# Altium footprint library Relays.PcbLib: 58 footprints (part 3 of 4)
Each footprint in its own frame and in the unit in brackets; x right, y up, seen from the top. Pads: shape width x height; smd on the part's side, far side on the other; paste and mask are expansions set on the pad; w line width, h text height; cw(c..) or ccw(c..) is an arc to the next point about the centre after c.
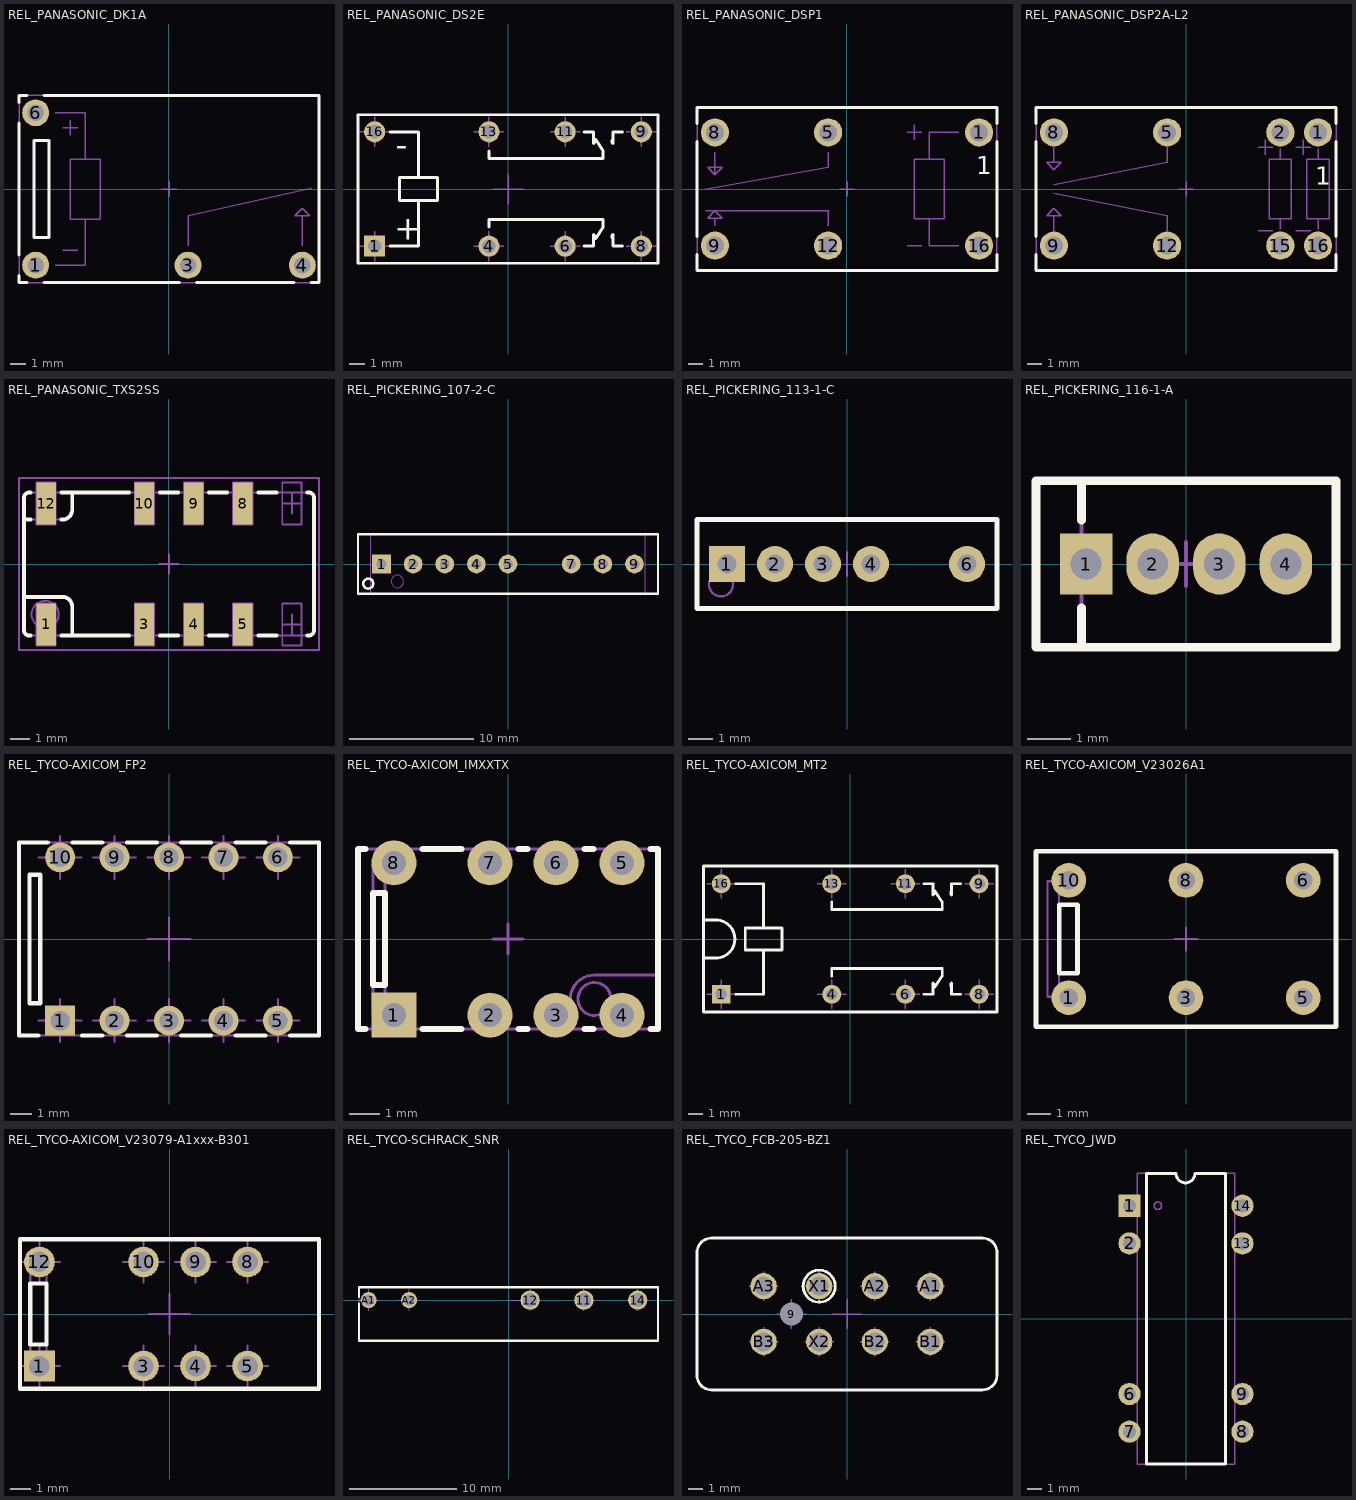
[diagram p2: the footprints below, top view; thin cyan lines are the x and y axes]

## REL_PANASONIC_DK1A [mm] "4 Leads Single Side Stable Relay,PANASONIC DK Serie, Body 20mm x 12.5mm"
height 10
pads (4):
  round 1.8 hole 1.1: 1(-8.89,-5.08) 3(1.27,-5.08) 4(8.89,-5.08) 6(-8.89,5.08)
Top Overlay:
  lines w0.2: -10,-5.757 -10,-6.25 -9.457,-6.25 ; -10,-4.403 -10,4.403 ; -10,5.757 -10,6.25 -9.457,6.25 ; -8.323,-6.25 0.703,-6.25 ; -8.323,6.25 10,6.25 10,-6.25 9.457,-6.25 ; 1.837,-6.25 8.323,-6.25 ; -9,-3.25 -8,-3.25 -8,3.25 -9,3.25 -9,-3.25
Mechanical 8:
  lines w0.1: -9.39,-5.08 -8.89,-5.08 ; -9.39,5.08 -8.89,5.08 ; -8.89,-5.58 -8.89,-5.08 ; -8.89,-4.58 -8.89,-5.08 ; -8.89,4.58 -8.89,5.08 ; -8.89,5.58 -8.89,5.08 ; -8.39,-5.08 -8.89,-5.08 ; -8.39,5.08 -8.89,5.08 ; -0.5,0 0,0 ; 0,-0.5 0,0 ; 0,0.5 0,0 ; 0.5,0 0,0 ; 0.77,-5.08 1.27,-5.08 ; 1.27,-5.58 1.27,-5.08 ; 1.27,-4.58 1.27,-5.08 ; 1.77,-5.08 1.27,-5.08 ; 8.39,-5.08 8.89,-5.08 ; 8.89,-5.58 8.89,-5.08 ; 8.89,-4.58 8.89,-5.08 ; 9.39,-5.08 8.89,-5.08
Mechanical 14:
  lines w0.1: -8.89,-6.25 -2.54,-6.25 ; -7.59,-5.08 -5.59,-5.08 -5.59,-2 ; -7.59,5.08 -5.59,5.08 -5.59,2 ; -7.09,-4.08 -6.09,-4.08 ; -7.09,4.08 -6.09,4.08 ; -6.59,3.58 -6.59,4.58 ; 1.27,-3.78 1.27,-1.78 9.473,0.066 ; 8.89,-3.78 8.89,-1.78 ; -10,-6.25 -10,6.25 10,6.25 10,-6.25 -10,-6.25 ; -9,-3.25 -8,-3.25 -8,3.25 -9,3.25 -9,-3.25 ; -6.59,-2 -4.59,-2 -4.59,2 -6.59,2 -6.59,-2 ; 8.39,-1.78 9.39,-1.78 8.89,-1.28 8.39,-1.78
3D body: height 10, standoff -3.5, extent -10,-6.25 10,6.25

## REL_PANASONIC_DS2E [mm] "8 Leads Single Side Stable Relay,PANASONIC DS Serie, Body 20mm x 9.9mm"
height 9.9
pads (8):
  rect 1.4x1.4 hole 0.9: 1(-8.89,-3.81)
  round 1.4 hole 0.9: 4(-1.27,-3.81) 6(3.81,-3.81) 8(8.89,-3.81) 9(8.89,3.81) 11(3.81,3.81) 13(-1.27,3.81) 16(-8.89,3.81)
Top Overlay:
  lines w0.2: -7.874,-3.81 -5.969,-3.81 -5.969,-0.762 ; -7.874,3.81 -5.969,3.81 -5.969,0.762 ; -1.27,-2.54 -1.27,-2.032 6.35,-2.032 6.35,-2.54 5.842,-3.302 ; -1.27,2.54 -1.27,2.032 6.35,2.032 6.35,2.54 5.842,3.302 ; 5.08,-3.81 5.715,-3.81 5.715,-3.048 cw(c5.588,-3.175) 5.715,-3.302 ; 5.08,3.81 5.715,3.81 5.715,3.048 ccw(c5.588,3.175) 5.715,3.302 ; 6.985,-3.302 cw(c7.112,-3.175) 6.985,-3.048 6.985,-3.81 7.62,-3.81 ; 6.985,3.302 ccw(c7.112,3.175) 6.985,3.048 6.985,3.81 7.62,3.81 ; -10,-4.95 -10,4.95 10,4.95 10,-4.95 -10,-4.95 ; -7.239,-0.762 -7.239,0.762 -4.699,0.762 -4.699,-0.762 -7.239,-0.762
  text "-" at -7.5,2.2 h1.6
  text "+" at -7.6,-3.4 h1.6
Mechanical 8:
  lines w0.1: -9.89,-3.81 -8.89,-3.81 ; -9.89,3.81 -8.89,3.81 ; -8.89,-4.81 -8.89,-3.81 ; -8.89,-2.81 -8.89,-3.81 ; -8.89,2.81 -8.89,3.81 ; -8.89,4.81 -8.89,3.81 ; -7.89,-3.81 -8.89,-3.81 ; -7.89,3.81 -8.89,3.81 ; -2.27,-3.81 -1.27,-3.81 ; -2.27,3.81 -1.27,3.81 ; -1.27,-4.81 -1.27,-3.81 ; -1.27,-2.81 -1.27,-3.81 ; -1.27,2.81 -1.27,3.81 ; -1.27,4.81 -1.27,3.81 ; -1,0 0,0 ; -0.27,-3.81 -1.27,-3.81 ; -0.27,3.81 -1.27,3.81 ; 0,-1 0,0 ; 0,1 0,0 ; 1,0 0,0 ; 2.81,-3.81 3.81,-3.81 ; 2.81,3.81 3.81,3.81 ; 3.81,-4.81 3.81,-3.81 ; 3.81,-2.81 3.81,-3.81 ; 3.81,2.81 3.81,3.81 ; 3.81,4.81 3.81,3.81 ; 4.81,-3.81 3.81,-3.81 ; 4.81,3.81 3.81,3.81 ; 7.89,-3.81 8.89,-3.81 ; 7.89,3.81 8.89,3.81 ; 8.89,-4.81 8.89,-3.81 ; 8.89,-2.81 8.89,-3.81 ; 8.89,2.81 8.89,3.81 ; 8.89,4.81 8.89,3.81 ; 9.89,-3.81 8.89,-3.81 ; 9.89,3.81 8.89,3.81
Mechanical 14:
  lines w0.1: -7.874,-3.81 -5.969,-3.81 -5.969,-0.762 ; -7.874,3.81 -5.969,3.81 -5.969,0.762 ; -1.27,-2.54 -1.27,-2.032 6.35,-2.032 6.35,-2.54 5.842,-3.302 ; -1.27,2.54 -1.27,2.032 6.35,2.032 6.35,2.54 5.842,3.302 ; 5.08,-3.81 5.715,-3.81 5.715,-3.048 cw(c5.588,-3.175) 5.715,-3.302 ; 5.08,3.81 5.715,3.81 5.715,3.048 ccw(c5.588,3.175) 5.715,3.302 ; 6.985,-3.302 cw(c7.112,-3.175) 6.985,-3.048 6.985,-3.81 7.62,-3.81 ; 6.985,3.302 ccw(c7.112,3.175) 6.985,3.048 6.985,3.81 7.62,3.81 ; -10,-4.95 -10,4.95 10,4.95 10,-4.95 -10,-4.95 ; -9.19,-3.96 -8.59,-3.96 -8.59,-3.66 -9.19,-3.66 -9.19,-3.96 ; -9.19,3.66 -8.59,3.66 -8.59,3.96 -9.19,3.96 -9.19,3.66 ; -7.239,-0.762 -7.239,0.762 -4.699,0.762 -4.699,-0.762 -7.239,-0.762 ; -1.57,-3.96 -0.97,-3.96 -0.97,-3.66 -1.57,-3.66 -1.57,-3.96 ; -1.57,3.66 -0.97,3.66 -0.97,3.96 -1.57,3.96 -1.57,3.66 ; 3.51,-3.96 4.11,-3.96 4.11,-3.66 3.51,-3.66 3.51,-3.96 ; 3.51,3.66 4.11,3.66 4.11,3.96 3.51,3.96 3.51,3.66 ; 8.59,-3.96 9.19,-3.96 9.19,-3.66 8.59,-3.66 8.59,-3.96 ; 8.59,3.66 9.19,3.66 9.19,3.96 8.59,3.96 8.59,3.66
  text "-" at -7.5,2.2 h1.6
  text "+" at -7.6,-3.4 h1.6
3D body: height 9.9, standoff -3.4, extent -10,-4.95 10,4.95

## REL_PANASONIC_DSP1 [mm] "6 Leads Single Side Stable Relay,PANASONIC DSP Serie, Body 20.2mm x 11mm"
height 10.5
pads (6):
  round 1.9 hole 1.2: 1(8.89,3.81) 5(-1.27,3.81) 8(-8.89,3.81) 9(-8.89,-3.81) 12(-1.27,-3.81) 16(8.89,-3.81)
Top Overlay:
  lines w0.2: -10.1,-4.409 -10.1,-5.5 10.1,-5.5 10.1,-4.409 ; -10.1,-3.211 -10.1,3.211 ; -10.1,4.409 -10.1,5.5 10.1,5.5 10.1,4.409 ; 10.1,-3.211 10.1,3.211
  text "1" at 8.7,1 h1.2
Mechanical 8:
  lines w0.1: -9.39,-3.81 -8.89,-3.81 ; -9.39,3.81 -8.89,3.81 ; -8.89,-4.31 -8.89,-3.81 ; -8.89,-3.31 -8.89,-3.81 ; -8.89,3.31 -8.89,3.81 ; -8.89,4.31 -8.89,3.81 ; -8.39,-3.81 -8.89,-3.81 ; -8.39,3.81 -8.89,3.81 ; -1.77,-3.81 -1.27,-3.81 ; -1.77,3.81 -1.27,3.81 ; -1.27,-4.31 -1.27,-3.81 ; -1.27,-3.31 -1.27,-3.81 ; -1.27,3.31 -1.27,3.81 ; -1.27,4.31 -1.27,3.81 ; -0.77,-3.81 -1.27,-3.81 ; -0.77,3.81 -1.27,3.81 ; -0.5,0 0,0 ; 0,-0.5 0,0 ; 0,0.5 0,0 ; 0.5,0 0,0 ; 8.39,-3.81 8.89,-3.81 ; 8.39,3.81 8.89,3.81 ; 8.89,-4.31 8.89,-3.81 ; 8.89,-3.31 8.89,-3.81 ; 8.89,3.31 8.89,3.81 ; 8.89,4.31 8.89,3.81 ; 9.39,-3.81 8.89,-3.81 ; 9.39,3.81 8.89,3.81
Mechanical 14:
  lines w0.1: -9.504,-1.46 -1.243,-1.46 ; -9.504,-0.032 -1.27,1.46 -1.27,2.46 ; -8.89,-2.46 -8.89,-1.96 ; -8.89,2.46 -8.89,0.96 ; -1.27,-2.46 -1.27,-1.46 ; 4.04,-3.81 5.04,-3.81 ; 4.04,3.81 5.04,3.81 ; 4.54,3.31 4.54,4.31 ; 5.54,-2 5.54,-3.81 7.54,-3.81 ; 5.54,2 5.54,3.81 7.54,3.81 ; -8.89,0.96 -8.39,1.46 -9.39,1.46 -8.89,0.96 ; -10.1,-5.5 10.1,-5.5 10.1,5.5 -10.1,5.5 -10.1,-5.5 ; -9.39,-1.96 -8.39,-1.96 -8.89,-1.46 -9.39,-1.96 ; 4.54,-2 6.54,-2 6.54,2 4.54,2 4.54,-2
3D body: height 10.5, standoff -3.5, extent -10.1,-5.5 10.1,5.5

## REL_PANASONIC_DSP2A-L2 [mm] "8 Leads 2 Coil Latching 2 Form A (DPST) Relay, PANASONIC DSP Serie, Body 20.2mm x 11mm"
height 10.5
pads (8):
  round 1.9 hole 1.2: 1(8.89,3.81) 2(6.35,3.81) 5(-1.27,3.81) 8(-8.89,3.81) 9(-8.89,-3.81) 12(-1.27,-3.81) 15(6.35,-3.81) 16(8.89,-3.81)
Top Overlay:
  lines w0.2: -10.1,-4.409 -10.1,-5.5 10.1,-5.5 10.1,-4.409 ; -10.1,-3.211 -10.1,3.211 ; -10.1,4.409 -10.1,5.5 10.1,5.5 10.1,4.409 ; 10.1,-3.211 10.1,3.211
  text "1" at 8.7,0.3 h1.2
Mechanical 8:
  lines w0.1: -9.39,-3.81 -8.89,-3.81 ; -9.39,3.81 -8.89,3.81 ; -8.89,-4.31 -8.89,-3.81 ; -8.89,-3.31 -8.89,-3.81 ; -8.89,3.31 -8.89,3.81 ; -8.89,4.31 -8.89,3.81 ; -8.39,-3.81 -8.89,-3.81 ; -8.39,3.81 -8.89,3.81 ; -1.77,-3.81 -1.27,-3.81 ; -1.77,3.81 -1.27,3.81 ; -1.27,-4.31 -1.27,-3.81 ; -1.27,-3.31 -1.27,-3.81 ; -1.27,3.31 -1.27,3.81 ; -1.27,4.31 -1.27,3.81 ; -0.77,-3.81 -1.27,-3.81 ; -0.77,3.81 -1.27,3.81 ; -0.5,0 0,0 ; 0,-0.5 0,0 ; 0,0.5 0,0 ; 0.5,0 0,0 ; 5.85,-3.81 6.35,-3.81 ; 5.85,3.81 6.35,3.81 ; 6.35,-4.31 6.35,-3.81 ; 6.35,-3.31 6.35,-3.81 ; 6.35,3.31 6.35,3.81 ; 6.35,4.31 6.35,3.81 ; 6.85,-3.81 6.35,-3.81 ; 6.85,3.81 6.35,3.81 ; 8.39,-3.81 8.89,-3.81 ; 8.39,3.81 8.89,3.81 ; 8.89,-4.31 8.89,-3.81 ; 8.89,-3.31 8.89,-3.81 ; 8.89,3.31 8.89,3.81 ; 8.89,4.31 8.89,3.81 ; 9.39,-3.81 8.89,-3.81 ; 9.39,3.81 8.89,3.81
Mechanical 14:
  lines w0.1: -8.89,-2.81 -8.89,-1.81 ; -8.89,-0.289 -1.27,-1.81 -1.27,-2.81 ; -8.89,0.289 -1.27,1.81 -1.27,2.81 ; -8.89,1.81 -8.89,2.81 ; 4.85,-2.81 5.85,-2.81 ; 4.85,2.81 5.85,2.81 ; 5.35,2.31 5.35,3.31 ; 6.35,-2.7 6.35,-2 ; 6.35,2 6.35,2.7 ; 7.39,-2.81 8.39,-2.81 ; 7.39,2.81 8.39,2.81 ; 7.89,2.31 7.89,3.31 ; 8.89,-2.7 8.89,-2 ; 8.89,2 8.89,2.7 ; -10.1,-5.5 10.1,-5.5 10.1,5.5 -10.1,5.5 -10.1,-5.5 ; -9.39,-1.81 -8.39,-1.81 -8.89,-1.31 -9.39,-1.81 ; -9.39,1.81 -8.39,1.81 -8.89,1.31 -9.39,1.81 ; 5.6,-2 7.1,-2 7.1,2 5.6,2 5.6,-2 ; 8.14,-2 9.64,-2 9.64,2 8.14,2 8.14,-2
3D body: height 10.5, standoff -3.5, extent -10.1,-5.5 10.1,5.5

## REL_PANASONIC_TXS2SS [mm] "8 Leads Single Side Stable SMD Relay, PANASONIC TX-S Serie, Body 15mm x 7.4mm x 10mm H"
height 10
pads (8):
  rect 1x2.16 smd: 1(-6.35,-3.12) 3(-1.27,-3.12) 4(1.27,-3.12) 5(3.81,-3.12) 8(3.81,3.12) 9(1.27,3.12) 10(-1.27,3.12) 12(-6.35,3.12)
Top Overlay:
  lines w0.2: -7.5,-1.7 -5.5,-1.7 cw(c-5.5,-2.2) -5,-2.2 -5,-3.7 ; -7.5,2.3 -7.15,2.3 ; -7.15,-3.7 -7.2,-3.7 cw(c-7.2,-3.4) -7.5,-3.4 -7.5,3.4 cw(c-7.2,3.4) -7.2,3.7 -7.15,3.7 ; -5.55,-3.7 -2.07,-3.7 ; -5.55,2.3 -5.5,2.3 ccw(c-5.5,2.8) -5,2.8 -5,3.7 ; -5.55,3.7 -2.07,3.7 ; -0.47,-3.7 0.47,-3.7 ; -0.47,3.7 0.47,3.7 ; 2.07,-3.7 3.01,-3.7 ; 2.07,3.7 3.01,3.7 ; 4.61,-3.7 5.55,-3.7 ; 4.61,3.7 5.55,3.7 ; 7.15,-3.7 7.2,-3.7 ccw(c7.2,-3.4) 7.5,-3.4 7.5,3.4 ccw(c7.2,3.4) 7.2,3.7 7.15,3.7
Mechanical 8:
  lines w0.1: -6.85,-3.12 -6.35,-3.12 ; -6.85,3.12 -6.35,3.12 ; -6.35,-3.62 -6.35,-3.12 ; -6.35,-2.62 -6.35,-3.12 ; -6.35,2.62 -6.35,3.12 ; -6.35,3.62 -6.35,3.12 ; -5.85,-3.12 -6.35,-3.12 ; -5.85,3.12 -6.35,3.12 ; -1.77,-3.12 -1.27,-3.12 ; -1.77,3.12 -1.27,3.12 ; -1.27,-3.62 -1.27,-3.12 ; -1.27,-2.62 -1.27,-3.12 ; -1.27,2.62 -1.27,3.12 ; -1.27,3.62 -1.27,3.12 ; -0.77,-3.12 -1.27,-3.12 ; -0.77,3.12 -1.27,3.12 ; -0.5,0 0,0 ; 0,-0.5 0,0 ; 0,0.5 0,0 ; 0.5,0 0,0 ; 0.77,-3.12 1.27,-3.12 ; 0.77,3.12 1.27,3.12 ; 1.27,-3.62 1.27,-3.12 ; 1.27,-2.62 1.27,-3.12 ; 1.27,2.62 1.27,3.12 ; 1.27,3.62 1.27,3.12 ; 1.77,-3.12 1.27,-3.12 ; 1.77,3.12 1.27,3.12 ; 3.31,-3.12 3.81,-3.12 ; 3.31,3.12 3.81,3.12 ; 3.81,-3.62 3.81,-3.12 ; 3.81,-2.62 3.81,-3.12 ; 3.81,2.62 3.81,3.12 ; 3.81,3.62 3.81,3.12 ; 4.31,-3.12 3.81,-3.12 ; 4.31,3.12 3.81,3.12 ; 5.85,-3.12 6.35,-3.12 ; 5.85,3.12 6.35,3.12 ; 6.35,-3.62 6.35,-3.12 ; 6.35,-2.62 6.35,-3.12 ; 6.35,2.62 6.35,3.12 ; 6.35,3.62 6.35,3.12 ; 6.85,-3.12 6.35,-3.12 ; 6.85,3.12 6.35,3.12 ; -6.85,-4.2 -6.85,-2.04 -5.85,-2.04 -5.85,-4.2 -6.85,-4.2 ; -6.85,2.04 -6.85,4.2 -5.85,4.2 -5.85,2.04 -6.85,2.04 ; -1.77,-4.2 -1.77,-2.04 -0.77,-2.04 -0.77,-4.2 -1.77,-4.2 ; -1.77,2.04 -1.77,4.2 -0.77,4.2 -0.77,2.04 -1.77,2.04 ; 0.77,-4.2 0.77,-2.04 1.77,-2.04 1.77,-4.2 0.77,-4.2 ; 0.77,2.04 0.77,4.2 1.77,4.2 1.77,2.04 0.77,2.04 ; 3.31,-4.2 3.31,-2.04 4.31,-2.04 4.31,-4.2 3.31,-4.2 ; 3.31,2.04 3.31,4.2 4.31,4.2 4.31,2.04 3.31,2.04 ; 5.85,-4.2 5.85,-2.04 6.85,-2.04 6.85,-4.2 5.85,-4.2 ; 5.85,2.04 5.85,4.2 6.85,4.2 6.85,2.04 5.85,2.04
Mechanical 14:
  circle w0.1: c-6.4,-2.6 r0.7
  lines w0.1: -7.5,-1.7 -5.5,-1.7 cw(c-5.5,-2.2) -5,-2.2 -5,-3.7 ; -7.5,2.3 -5.5,2.3 ccw(c-5.5,2.8) -5,2.8 -5,3.7 ; -7.5,-3.4 ccw(c-7.2,-3.4) -7.2,-3.7 7.2,-3.7 ccw(c7.2,-3.4) 7.5,-3.4 7.5,3.4 ccw(c7.2,3.4) 7.2,3.7 -7.2,3.7 ccw(c-7.2,3.4) -7.5,3.4 -7.5,-3.4
Mechanical 15:
  lines w0.1: -7.75,-4.45 -7.75,4.45 7.75,4.45 7.75,-4.45 -7.75,-4.45
3D body: height 10, standoff 0, extent -7.5,-3.7 7.5,3.7

## REL_PICKERING_107-2-C [mm] "8 Leads, Body 24.1 x 4.8mm, 2 Form C Mini-SIL Reed Relay 107 Serie"
height 10.2
pads (8):
  rect 1.5x1.5 hole 0.8: 1(-10.16,0)
  round 1.5 hole 0.8: 2(-7.62,0) 3(-5.08,0) 4(-2.54,0) 5(0,0) 7(5.08,0) 8(7.62,0) 9(10.16,0)
Top Overlay:
  circle w0.2: c-11.225,-1.575 r0.4
  lines w0.2: -12.05,-2.4 -12.05,2.4 12.05,2.4 12.05,-2.4 -12.05,-2.4
Mechanical 8:
  lines w0.1: -10.66,0 -10.16,0 ; -10.16,-0.5 -10.16,0 ; -10.16,0.5 -10.16,0 ; -9.66,0 -10.16,0 ; -8.12,0 -7.62,0 ; -7.62,-0.5 -7.62,0 ; -7.62,0.5 -7.62,0 ; -7.12,0 -7.62,0 ; -5.58,0 -5.08,0 ; -5.08,-0.5 -5.08,0 ; -5.08,0.5 -5.08,0 ; -4.58,0 -5.08,0 ; -3.04,0 -2.54,0 ; -2.54,-0.5 -2.54,0 ; -2.54,0.5 -2.54,0 ; -2.04,0 -2.54,0 ; -0.5,0 0,0 ; 0,-0.5 0,0 ; 0,0.5 0,0 ; 0.5,0 0,0 ; 4.58,0 5.08,0 ; 5.08,-0.5 5.08,0 ; 5.08,0.5 5.08,0 ; 5.58,0 5.08,0 ; 7.12,0 7.62,0 ; 7.62,-0.5 7.62,0 ; 7.62,0.5 7.62,0 ; 8.12,0 7.62,0 ; 9.66,0 10.16,0 ; 10.16,-0.5 10.16,0 ; 10.16,0.5 10.16,0 ; 10.66,0 10.16,0
Mechanical 14:
  circle w0.1: c-8.89,-1.4 r0.5
  lines w0.1: -11.034,-2.4 -11.034,2.4 ; 11.034,-2.4 11.034,2.4 ; -12.05,-2.4 -12.05,2.4 12.05,2.4 12.05,-2.4 -12.05,-2.4
3D body: height 10.2, standoff -3.29, extent -12.05,-2.4 12.05,2.4

## REL_PICKERING_113-1-C [mm] "5 Leads, Body 12.5 x 3.7mm, 1 Form C Mini-SIL Reed Relay 113 Serie"
height 6.6
pads (5):
  rect 1.5x1.5 hole 0.8: 1(-5,0)
  round 1.5 hole 0.8: 2(-3,0) 3(-1,0) 4(1,0) 6(5,0)
Top Overlay:
  lines w0.2: -6.25,-1.85 -6.25,1.85 6.25,1.85 6.25,-1.85 -6.25,-1.85
Mechanical 8:
  lines w0.1: -5.5,0 -5,0 ; -5,-0.5 -5,0 ; -5,0.5 -5,0 ; -4.5,0 -5,0 ; -3.5,0 -3,0 ; -3,-0.5 -3,0 ; -3,0.5 -3,0 ; -2.5,0 -3,0 ; -1.5,0 -1,0 ; -1,-0.5 -1,0 ; -1,0.5 -1,0 ; -0.5,0 -1,0 ; 0,-0.5 0,0 0,0.5 ; 0.5,0 1,0 ; 1,-0.5 1,0 ; 1,0.5 1,0 ; 1.5,0 1,0 ; 4.5,0 5,0 ; 5,-0.5 5,0 ; 5,0.5 5,0 ; 5.5,0 5,0
Mechanical 14:
  circle w0.1: c-5.25,-0.85 r0.5
  lines w0.1: -6.25,-1.85 -6.25,1.85 6.25,1.85 6.25,-1.85 -6.25,-1.85
3D body: height 6.6, standoff -3.3, extent -6.25,-1.85 6.25,1.85

## REL_PICKERING_116-1-A [mm] "4 Leads, Body 6.86 x 3.81mm, 1Form A SIL Reed Relay, 116 Serie"
height 12.6
pads (4):
  rect 1.2x1.4 hole 0.7: 1(-2.286,0)
  oval 1.2x1.4 hole 0.7: 2(-0.762,0) 3(0.762,0) 4(2.286,0)
Top Overlay:
  lines w0.2: -2.389,-1.905 -2.389,-1 ; -2.389,1 -2.389,1.905 ; -3.43,-1.905 -3.43,1.905 3.43,1.905 3.43,-1.905 -3.43,-1.905
Mechanical 8:
  lines w0.1: -2.786,0 -2.286,0 ; -2.286,-0.5 -2.286,0 ; -2.286,0.5 -2.286,0 ; -1.786,0 -2.286,0 ; -1.262,0 -0.762,0 ; -0.762,-0.5 -0.762,0 ; -0.762,0.5 -0.762,0 ; -0.5,0 0,0 ; -0.262,0 -0.762,0 ; 0,-0.5 0,0 ; 0,0.5 0,0 ; 0.262,0 0.762,0 ; 0.5,0 0,0 ; 0.762,-0.5 0.762,0 ; 0.762,0.5 0.762,0 ; 1.262,0 0.762,0 ; 1.786,0 2.286,0 ; 2.286,-0.5 2.286,0 ; 2.286,0.5 2.286,0 ; 2.786,0 2.286,0
Mechanical 14:
  lines w0.1: -2.389,-1.905 -2.389,1.905 ; -3.43,-1.905 -3.43,1.905 3.43,1.905 3.43,-1.905 -3.43,-1.905
3D body: height 12.6, standoff -3.17, extent -3.43,-1.905 3.43,1.905

## REL_TYCO-AXICOM_FP2 [mm] "Relay, 10 Leads, Row Spacing 7.62 mm; Body 14mm x 9mm, AXICOM FP2 Serie"
height 5.1
pads (10):
  rect 1.4x1.4 hole 0.9: 1(-5.08,-3.81)
  round 1.4 hole 0.9: 2(-2.54,-3.81) 3(0,-3.81) 4(2.54,-3.81) 5(5.08,-3.81) 6(5.08,3.81) 7(2.54,3.81) 8(0,3.81) 9(-2.54,3.81) 10(-5.08,3.81)
Top Overlay:
  lines w0.2: -6.096,-4.5 -7,-4.5 -7,4.5 -5.658,4.5 ; -4.502,4.5 -3.118,4.5 ; -4.064,-4.5 -3.118,-4.5 ; -1.962,-4.5 -0.578,-4.5 ; -1.962,4.5 -0.578,4.5 ; 0.578,-4.5 1.962,-4.5 ; 0.578,4.5 1.962,4.5 ; 3.118,-4.5 4.502,-4.5 ; 3.118,4.5 4.502,4.5 ; 5.658,-4.5 7,-4.5 7,4.5 5.658,4.5 ; -6.51,-3 -6.01,-3 -6.01,3 -6.51,3 -6.51,-3
Mechanical 8:
  lines w0.1: -6.08,-3.81 -5.08,-3.81 ; -6.08,3.81 -5.08,3.81 ; -5.08,-4.81 -5.08,-3.81 ; -5.08,-2.81 -5.08,-3.81 ; -5.08,2.81 -5.08,3.81 ; -5.08,4.81 -5.08,3.81 ; -4.08,-3.81 -5.08,-3.81 ; -4.08,3.81 -5.08,3.81 ; -3.54,-3.81 -2.54,-3.81 ; -3.54,3.81 -2.54,3.81 ; -2.54,-4.81 -2.54,-3.81 ; -2.54,-2.81 -2.54,-3.81 ; -2.54,2.81 -2.54,3.81 ; -2.54,4.81 -2.54,3.81 ; -1.54,-3.81 -2.54,-3.81 ; -1.54,3.81 -2.54,3.81 ; -1,-3.81 0,-3.81 ; -1,0 0,0 ; -1,3.81 0,3.81 ; 0,-4.81 0,-3.81 ; 0,-2.81 0,-3.81 ; 0,-1 0,0 ; 0,1 0,0 ; 0,2.81 0,3.81 ; 0,4.81 0,3.81 ; 1,-3.81 0,-3.81 ; 1,0 0,0 ; 1,3.81 0,3.81 ; 1.54,-3.81 2.54,-3.81 ; 1.54,3.81 2.54,3.81 ; 2.54,-4.81 2.54,-3.81 ; 2.54,-2.81 2.54,-3.81 ; 2.54,2.81 2.54,3.81 ; 2.54,4.81 2.54,3.81 ; 3.54,-3.81 2.54,-3.81 ; 3.54,3.81 2.54,3.81 ; 4.08,-3.81 5.08,-3.81 ; 4.08,3.81 5.08,3.81 ; 5.08,-4.81 5.08,-3.81 ; 5.08,-2.81 5.08,-3.81 ; 5.08,2.81 5.08,3.81 ; 5.08,4.81 5.08,3.81 ; 6.08,-3.81 5.08,-3.81 ; 6.08,3.81 5.08,3.81
Mechanical 14:
  lines w0.1: -7,-4.5 7,-4.5 7,4.5 -7,4.5 -7,-4.5 ; -6.51,-3 -6.01,-3 -6.01,3 -6.51,3 -6.51,-3
3D body: height 5.2, standoff -3.5, extent -7.01,-4.5 6.99,4.5

## REL_TYCO-AXICOM_IMXXTX [mm] "Relay, 8 Leads, Row Spacing 5.08 mm; Body 14.5mm x 7.2mm, AXICOM P2 Serie"
height 9.9
pads (8):
  rect 1.5x1.5 hole 0.8: 1(-3.8,-2.54)
  round 1.5 hole 0.8: 2(-0.6,-2.54) 3(1.6,-2.54) 4(3.8,-2.54) 5(3.8,2.54) 6(1.6,2.54) 7(-0.6,2.54) 8(-3.8,2.54)
Top Overlay:
  lines w0.2: -4.744,-3 -5,-3 -5,3 -4.744,3 ; -2.856,-3 -1.544,-3 ; -2.856,3 -1.544,3 ; 0.344,-3 0.656,-3 ; 0.344,3 0.656,3 ; 2.544,-3 2.856,-3 ; 2.544,3 2.856,3 ; 4.744,-3 5,-3 5,3 4.744,3 ; -4.5,-1.534 -4.5,1.534 -4.1,1.534 -4.1,-1.534 -4.5,-1.534
Mechanical 8:
  lines w0.1: -4.3,-2.54 -3.8,-2.54 ; -4.3,2.54 -3.8,2.54 ; -3.8,-3.04 -3.8,-2.54 ; -3.8,-2.04 -3.8,-2.54 ; -3.8,2.04 -3.8,2.54 ; -3.8,3.04 -3.8,2.54 ; -3.3,-2.54 -3.8,-2.54 ; -3.3,2.54 -3.8,2.54 ; -1.1,-2.54 -0.6,-2.54 ; -1.1,2.54 -0.6,2.54 ; -0.6,-3.04 -0.6,-2.54 ; -0.6,-2.04 -0.6,-2.54 ; -0.6,2.04 -0.6,2.54 ; -0.6,3.04 -0.6,2.54 ; -0.5,0 0,0 ; -0.1,-2.54 -0.6,-2.54 ; -0.1,2.54 -0.6,2.54 ; 0,-0.5 0,0 ; 0,0.5 0,0 ; 0.5,0 0,0 ; 1.1,-2.54 1.6,-2.54 ; 1.1,2.54 1.6,2.54 ; 1.6,-3.04 1.6,-2.54 ; 1.6,-2.04 1.6,-2.54 ; 1.6,2.04 1.6,2.54 ; 1.6,3.04 1.6,2.54 ; 2.1,-2.54 1.6,-2.54 ; 2.1,2.54 1.6,2.54 ; 3.3,-2.54 3.8,-2.54 ; 3.3,2.54 3.8,2.54 ; 3.8,-3.04 3.8,-2.54 ; 3.8,-2.04 3.8,-2.54 ; 3.8,2.04 3.8,2.54 ; 3.8,3.04 3.8,2.54 ; 4.3,-2.54 3.8,-2.54 ; 4.3,2.54 3.8,2.54
Mechanical 14:
  circle w0.1: c2.88,-2 r0.55
  lines w0.1: 2.08,-3 2.08,-2 cw(c2.88,-2) 2.88,-1.2 5,-1.2 ; -5,-3 5,-3 5,3 -5,3 -5,-3 ; -4.5,-2.5 -4.5,2.5 -4.1,2.5 -4.1,-2.5 -4.5,-2.5
3D body: height 5.65, standoff -2.6, extent -5,-3 5,3

## REL_TYCO-AXICOM_MT2 [mm] "8 Leads, Row Spacing 7.62 mm; Body 20.25mm x 10.05mm, AXICOM MT2 Serie"
height 11.2
pads (8):
  rect 1.3x1.3 hole 0.8: 1(-8.89,-3.81)
  round 1.3 hole 0.8: 4(-1.27,-3.81) 6(3.81,-3.81) 8(8.89,-3.81) 9(8.89,3.81) 11(3.81,3.81) 13(-1.27,3.81) 16(-8.89,3.81)
Top Overlay:
  lines w0.2: -10.125,-1.3 -9.125,-1.3 ccw(c-9.257,0) -9.125,1.3 -10.125,1.3 ; -7.874,-3.81 -5.969,-3.81 -5.969,-0.762 ; -7.874,3.81 -5.969,3.81 -5.969,0.762 ; -1.27,-2.54 -1.27,-2.032 6.35,-2.032 6.35,-2.54 5.842,-3.302 ; -1.27,2.54 -1.27,2.032 6.35,2.032 6.35,2.54 5.842,3.302 ; 5.08,-3.81 5.715,-3.81 5.715,-3.048 cw(c5.588,-3.175) 5.715,-3.302 ; 5.08,3.81 5.715,3.81 5.715,3.048 ccw(c5.588,3.175) 5.715,3.302 ; 6.985,-3.302 cw(c7.112,-3.175) 6.985,-3.048 6.985,-3.81 7.62,-3.81 ; 6.985,3.302 ccw(c7.112,3.175) 6.985,3.048 6.985,3.81 7.62,3.81 ; -10.125,-5.025 10.125,-5.025 10.125,5.025 -10.125,5.025 -10.125,-5.025 ; -7.239,-0.762 -7.239,0.762 -4.699,0.762 -4.699,-0.762 -7.239,-0.762
Mechanical 8:
  lines w0.1: -9.89,-3.81 -8.89,-3.81 ; -9.89,3.81 -8.89,3.81 ; -9.14,3.96 -8.64,3.66 ; -8.89,-4.81 -8.89,-3.81 ; -8.89,-2.81 -8.89,-3.81 ; -8.89,2.81 -8.89,3.81 ; -8.89,4.81 -8.89,3.81 ; -7.89,-3.81 -8.89,-3.81 ; -7.89,3.81 -8.89,3.81 ; -2.27,-3.81 -1.27,-3.81 ; -2.27,3.81 -1.27,3.81 ; -1.27,-4.81 -1.27,-3.81 ; -1.27,-2.81 -1.27,-3.81 ; -1.27,2.81 -1.27,3.81 ; -1.27,4.81 -1.27,3.81 ; -0.27,-3.81 -1.27,-3.81 ; -0.27,3.81 -1.27,3.81 ; 2.81,-3.81 3.81,-3.81 ; 2.81,3.81 3.81,3.81 ; 3.81,-4.81 3.81,-3.81 ; 3.81,-2.81 3.81,-3.81 ; 3.81,2.81 3.81,3.81 ; 3.81,4.81 3.81,3.81 ; 4.81,-3.81 3.81,-3.81 ; 4.81,3.81 3.81,3.81 ; 7.89,-3.81 8.89,-3.81 ; 7.89,3.81 8.89,3.81 ; 8.89,-4.81 8.89,-3.81 ; 8.89,-2.81 8.89,-3.81 ; 8.89,2.81 8.89,3.81 ; 8.89,4.81 8.89,3.81 ; 9.89,-3.81 8.89,-3.81 ; 9.89,3.81 8.89,3.81
Mechanical 14:
  lines w0.1: -10.125,-1.3 -9.125,-1.3 ccw(c-9.257,0) -9.125,1.3 -10.125,1.3 ; -7.874,-3.81 -5.969,-3.81 -5.969,-0.762 ; -7.874,3.81 -5.969,3.81 -5.969,0.762 ; -1.27,-2.54 -1.27,-2.032 6.35,-2.032 6.35,-2.54 5.842,-3.302 ; -1.27,2.54 -1.27,2.032 6.35,2.032 6.35,2.54 5.842,3.302 ; 5.08,-3.81 5.715,-3.81 5.715,-3.048 cw(c5.588,-3.175) 5.715,-3.302 ; 5.08,3.81 5.715,3.81 5.715,3.048 ccw(c5.588,3.175) 5.715,3.302 ; 6.985,-3.302 cw(c7.112,-3.175) 6.985,-3.048 6.985,-3.81 7.62,-3.81 ; 6.985,3.302 ccw(c7.112,3.175) 6.985,3.048 6.985,3.81 7.62,3.81 ; -10.125,-5.025 10.125,-5.025 10.125,5.025 -10.125,5.025 -10.125,-5.025 ; -7.239,-0.762 -7.239,0.762 -4.699,0.762 -4.699,-0.762 -7.239,-0.762
3D body: height 11.7, standoff -3.5, extent -10.125,-5.025 10.125,5.025

## REL_TYCO-AXICOM_V23026A1 [mm] "Relay, 6 Leads, Row Spacing 5.08 mm; Body 13mm x 7.6mm, AXICOM V23026 Serie"
height 6.9
pads (6):
  round 1.5 hole 0.8: 1(-5.08,-2.54) 3(0,-2.54) 5(5.08,-2.54) 6(5.08,2.54) 8(0,2.54) 10(-5.08,2.54)
Top Overlay:
  lines w0.2: -6.5,-3.8 6.5,-3.8 6.5,3.8 -6.5,3.8 -6.5,-3.8 ; -5.5,-1.49 -4.7,-1.49 -4.7,1.49 -5.5,1.49 -5.5,-1.49
Mechanical 8:
  lines w0.1: -5.58,-2.54 -5.08,-2.54 ; -5.58,2.54 -5.08,2.54 ; -5.08,-3.04 -5.08,-2.54 ; -5.08,-2.04 -5.08,-2.54 ; -5.08,2.04 -5.08,2.54 ; -5.08,3.04 -5.08,2.54 ; -4.58,-2.54 -5.08,-2.54 ; -4.58,2.54 -5.08,2.54 ; -0.5,-2.54 0,-2.54 ; -0.5,0 0,0 ; -0.5,2.54 0,2.54 ; 0,-3.04 0,-2.54 ; 0,-2.04 0,-2.54 ; 0,-0.5 0,0 ; 0,0.5 0,0 ; 0,2.04 0,2.54 ; 0,3.04 0,2.54 ; 0.5,-2.54 0,-2.54 ; 0.5,0 0,0 ; 0.5,2.54 0,2.54 ; 4.58,-2.54 5.08,-2.54 ; 4.58,2.54 5.08,2.54 ; 5.08,-3.04 5.08,-2.54 ; 5.08,-2.04 5.08,-2.54 ; 5.08,2.04 5.08,2.54 ; 5.08,3.04 5.08,2.54 ; 5.58,-2.54 5.08,-2.54 ; 5.58,2.54 5.08,2.54
Mechanical 14:
  lines w0.1: -6.5,-3.8 6.5,-3.8 6.5,3.8 -6.5,3.8 -6.5,-3.8 ; -6,-2.5 -6,2.5 -5.5,2.5 -5.5,-2.5 -6,-2.5
3D body: height 6.9, standoff -3.5, extent -6.5,-3.8 6.5,3.8

## REL_TYCO-AXICOM_V23079-A1xxx-B301 [mm] "Relay, 8 Leads, Row Spacing 5.08 mm; Body 14.5mm x 7.2mm, AXICOM P2 Serie"
height 9.9
pads (8):
  rect 1.5x1.5 hole 1: 1(-6.35,-2.54)
  round 1.5 hole 1: 3(-1.27,-2.54) 4(1.27,-2.54) 5(3.81,-2.54) 8(3.81,2.54) 9(1.27,2.54) 10(-1.27,2.54) 12(-6.35,2.54)
Top Overlay:
  lines w0.2: -7.3,-3.65 -7.3,3.65 7.3,3.65 7.3,-3.65 -7.3,-3.65 ; -6.8,-1.49 -6,-1.49 -6,1.49 -6.8,1.49 -6.8,-1.49
Mechanical 8:
  lines w0.1: -7.35,-2.54 -6.35,-2.54 ; -7.35,2.54 -6.35,2.54 ; -6.35,-3.54 -6.35,-2.54 ; -6.35,-1.54 -6.35,-2.54 ; -6.35,1.54 -6.35,2.54 ; -6.35,3.54 -6.35,2.54 ; -5.35,-2.54 -6.35,-2.54 ; -5.35,2.54 -6.35,2.54 ; -2.27,-2.54 -1.27,-2.54 ; -2.27,2.54 -1.27,2.54 ; -1.27,-3.54 -1.27,-2.54 ; -1.27,-1.54 -1.27,-2.54 ; -1.27,1.54 -1.27,2.54 ; -1.27,3.54 -1.27,2.54 ; -1,0 0,0 ; -0.27,-2.54 -1.27,-2.54 ; -0.27,2.54 -1.27,2.54 ; 0,-1 0,0 ; 0,1 0,0 ; 0.27,-2.54 1.27,-2.54 ; 0.27,2.54 1.27,2.54 ; 1,0 0,0 ; 1.27,-3.54 1.27,-2.54 ; 1.27,-1.54 1.27,-2.54 ; 1.27,1.54 1.27,2.54 ; 1.27,3.54 1.27,2.54 ; 2.27,-2.54 1.27,-2.54 ; 2.27,2.54 1.27,2.54 ; 2.81,-2.54 3.81,-2.54 ; 2.81,2.54 3.81,2.54 ; 3.81,-3.54 3.81,-2.54 ; 3.81,-1.54 3.81,-2.54 ; 3.81,1.54 3.81,2.54 ; 3.81,3.54 3.81,2.54 ; 4.81,-2.54 3.81,-2.54 ; 4.81,2.54 3.81,2.54
Mechanical 14:
  lines w0.1: -7.3,-3.65 7.3,-3.65 7.3,3.65 -7.3,3.65 -7.3,-3.65 ; -6.8,-2.5 -6.8,2.5 -6,2.5 -6,-2.5 -6.8,-2.5
3D body: height 9.9, standoff -3.8, extent -7.3,-3.65 7.3,3.65

## REL_TYCO-SCHRACK_SNR [mm] "5 Leads, Body 28.0 x 5mm, Slim PCB Relay SNR Serie"
height 15
pads (5):
  round 1.8 hole 1.3: 11(7.06,0) 12(2.02,0) 14(12.1,0)
  round 1.5 hole 1: A1(-13.1,0) A2(-9.32,0)
Top Overlay:
  lines w0.2: -14,-0.304 -14,-3.8 14,-3.8 14,1.2 -14,1.2 -14,0.304
Mechanical 8:
  lines w0.1: -14.1,0 -13.1,0 ; -13.1,-1 -13.1,0 ; -13.1,1 -13.1,0 ; -12.1,0 -13.1,0 ; -10.32,0 -9.32,0 ; -9.32,-1 -9.32,0 ; -9.32,1 -9.32,0 ; -8.32,0 -9.32,0 ; 0,0 2.02,0 ; 2.02,-1 2.02,0 ; 2.02,1 2.02,0 ; 3.02,0 2.02,0 ; 6.06,0 7.06,0 ; 7.06,-1 7.06,0 ; 7.06,1 7.06,0 ; 8.06,0 7.06,0 ; 11.1,0 12.1,0 ; 12.1,-1 12.1,0 ; 12.1,1 12.1,0 ; 13.1,0 12.1,0
Mechanical 14:
  lines w0.1: -14,-3.8 -14,1.2 14,1.2 14,-3.8 -14,-3.8
3D body: height 15, standoff -3.5, extent -14,-3.8 14,1.2

## REL_TYCO_FCB-205-BZ1 [mm] "Relay, 8 Leads, Row Spacing 3.81 mm; Body 20.57mm x 10.41mm, AXICOM FCB-205-BZ1"
height 16.26
pads (9):
  round 1 hole 1.6 unplated mask+0.3: 9(-3.81,0)
  round 1.8 hole 1.3: A1(5.715,1.905) A2(1.905,1.905) A3(-5.715,1.905) B1(5.715,-1.905) B2(1.905,-1.905) B3(-5.715,-1.905) X1(-1.905,1.905) X2(-1.905,-1.905)
Top Overlay:
  circle w0.2: c-1.905,1.905 r1.1
  lines w0.2: -10.285,-4.205 ccw(c-9.285,-4.205) -9.285,-5.205 9.285,-5.205 ccw(c9.285,-4.205) 10.285,-4.205 10.285,4.205 ccw(c9.285,4.205) 9.285,5.205 -9.285,5.205 ccw(c-9.285,4.205) -10.285,4.205 -10.285,-4.205
Mechanical 8:
  lines w0.1: -6.715,-1.905 -5.715,-1.905 ; -6.715,1.905 -5.715,1.905 ; -5.715,-2.905 -5.715,-1.905 ; -5.715,-0.905 -5.715,-1.905 ; -5.715,0.905 -5.715,1.905 ; -5.715,2.905 -5.715,1.905 ; -4.81,0 -3.81,0 ; -4.715,-1.905 -5.715,-1.905 ; -4.715,1.905 -5.715,1.905 ; -3.81,-1 -3.81,0 ; -3.81,1 -3.81,0 ; -2.905,-1.905 -1.905,-1.905 ; -2.905,1.905 -1.905,1.905 ; -2.81,0 -3.81,0 ; -1.905,-2.905 -1.905,-1.905 ; -1.905,-0.905 -1.905,-1.905 ; -1.905,0.905 -1.905,1.905 ; -1.905,2.905 -1.905,1.905 ; -1,0 0,0 ; -0.905,-1.905 -1.905,-1.905 ; -0.905,1.905 -1.905,1.905 ; 0,-1 0,0 ; 0,1 0,0 ; 0.905,-1.905 1.905,-1.905 ; 0.905,1.905 1.905,1.905 ; 1,0 0,0 ; 1.905,-2.905 1.905,-1.905 ; 1.905,-0.905 1.905,-1.905 ; 1.905,0.905 1.905,1.905 ; 1.905,2.905 1.905,1.905 ; 2.905,-1.905 1.905,-1.905 ; 2.905,1.905 1.905,1.905 ; 4.715,-1.905 5.715,-1.905 ; 4.715,1.905 5.715,1.905 ; 5.715,-2.905 5.715,-1.905 ; 5.715,-0.905 5.715,-1.905 ; 5.715,0.905 5.715,1.905 ; 5.715,2.905 5.715,1.905 ; 6.715,-1.905 5.715,-1.905 ; 6.715,1.905 5.715,1.905
Mechanical 14:
  circle w0.1: c-1.905,1.905 r1.1
  circle w0.1: c-1.905,1.905 r0.52
  circle w0.1: c-3.81,0 r0.66
  circle w0.1: c-5.715,1.905 r0.52
  circle w0.1: c1.905,1.905 r0.52
  circle w0.1: c5.715,1.905 r0.52
  circle w0.1: c5.715,-1.905 r0.52
  circle w0.1: c1.905,-1.905 r0.52
  circle w0.1: c-1.905,-1.905 r0.52
  circle w0.1: c-5.715,-1.905 r0.52
  lines w0.1: -10.285,-4.205 ccw(c-9.285,-4.205) -9.285,-5.205 9.285,-5.205 ccw(c9.285,-4.205) 10.285,-4.205 10.285,4.205 ccw(c9.285,4.205) 9.285,5.205 -9.285,5.205 ccw(c-9.285,4.205) -10.285,4.205 -10.285,-4.205
3D body: height 16.26, standoff -3.4, extent -10.285,-5.205 10.285,5.205

## REL_TYCO_JWD [mm] "DIP 14 Leads, Row Spacing 7.62 mm; Pitch 2.54 mm"
height 8
pads (8):
  rect 1.5x1.5 hole 0.9: 1(-3.81,7.62)
  round 1.5 hole 0.9: 2(-3.81,5.08) 6(-3.81,-5.08) 7(-3.81,-7.62) 8(3.81,-7.62) 9(3.81,-5.08) 13(3.81,5.08) 14(3.81,7.62)
Top Overlay:
  lines w0.2: -0.685,9.8 -2.65,9.8 -2.65,-9.8 2.65,-9.8 2.65,9.8 ; -0.67,9.8 ccw(c-0.035,9.8) 0.6,9.8 2.615,9.8
Mechanical 14:
  circle w0.1: c-1.905,7.62 r0.254
  lines w0.1: -3.3,-9.8 3.3,-9.8 3.3,9.8 0.6,9.8 cw(c-0.035,9.8) -0.67,9.8 -3.3,9.8 -3.3,-9.8
3D body: height 8, standoff -3.3, extent -3.935,-9.845 3.935,9.845